# EAGLE library part RECEPTABLE_1X8_HORIZ_SMT (library seb)
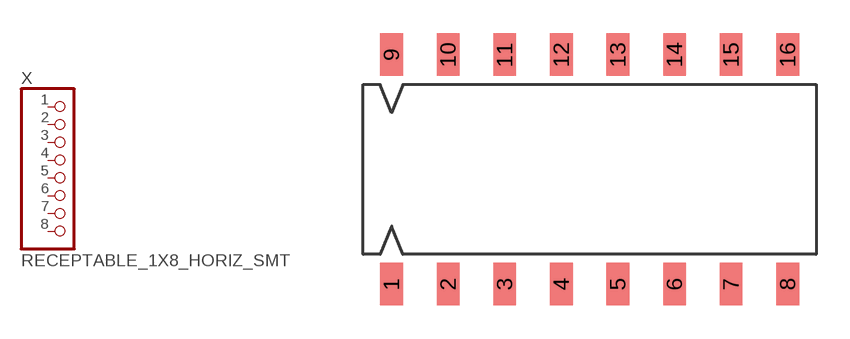
[diagram p12: symbol with the pads of RECEPTABLE_1X8_HORIZ_SMT; footprint RECEPTABLE_1X8_HORIZ_SMT]

Designator prefix X

## RECEPTABLE_1X8_HORIZ_SMT  [RECEPTABLE_1X8_HORIZ_SMT]
1  1  pwr
2  2  pwr
3  3  pwr
4  4  pwr
5  5  pwr
6  6  pwr
7  7  pwr
8  8  pwr
9  1  pwr
10  2  pwr
11  3  pwr
12  4  pwr
13  5  pwr
14  6  pwr
15  7  pwr
16  8  pwr

## Footprint RECEPTABLE_1X8_HORIZ_SMT (pad centres in mm)
smd 1.016 x 1.905: 1 -8.89,-5.144; 2 -6.35,-5.144; 3 -3.81,-5.144; 4 -1.27,-5.144; 5 1.27,-5.144; 6 3.81,-5.144; 7 6.35,-5.144; 8 8.89,-5.144; 9 -8.89,5.144; 10 -6.35,5.144; 11 -3.81,5.144; 12 -1.27,5.144; 13 1.27,5.144; 14 3.81,5.144; 15 6.35,5.144; 16 8.89,5.144